# Altium footprint library UJ2-MIBH-4-SMT-TR-67.PcbLib: 2 footprints
Each footprint in its own frame and in the unit in brackets; x right, y up, seen from the top. Pads: shape width x height; smd on the part's side, far side on the other; paste and mask are expansions set on the pad; w line width, h text height; cw(c..) or ccw(c..) is an arc to the next point about the centre after c.
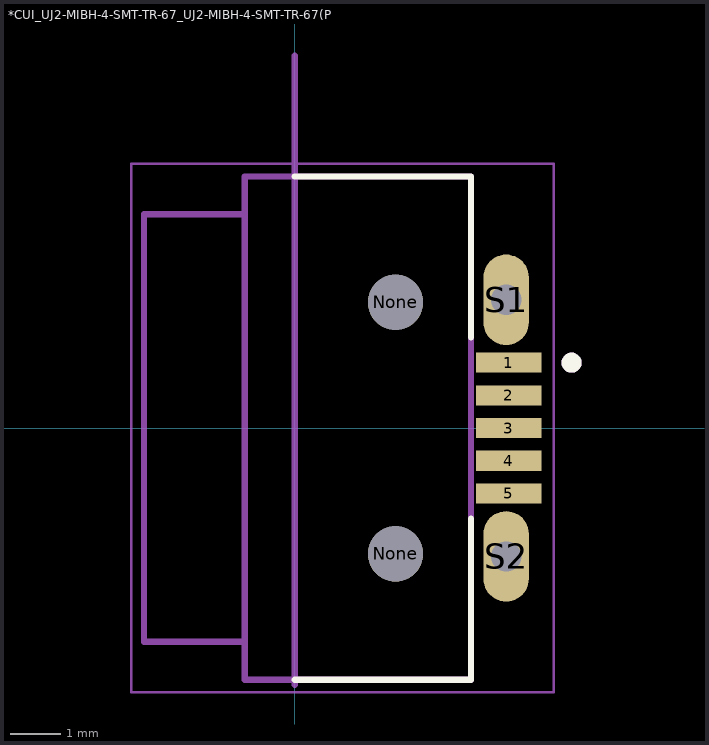
[diagram p0: the footprints below, top view; thin cyan lines are the x and y axes]

## *CUI_UJ2-MIBH-4-SMT-TR-67_UJ2-MIBH-4-SMT-TR-67(Primary) [mm]
pads (9):
  rect 1.3x0.4 smd: 1(4.25,1.3) 2(4.25,0.65) 3(4.25,0) 4(4.25,-0.65) 5(4.25,-1.3)
  round 1.1 hole 1.1 unplated: None(2,-2.5) None(2,2.5)
  oval 0.9x1.8 hole 0.6 paste+0: S1(4.2,2.55)
  oval 0.9x1.8 hole 0.6: S2(4.2,-2.55)
Top Overlay:
  circle w0.2: c5.5,1.3 r0.1
  lines w0.127: 0,-5 3.5,-5 3.5,-1.8 ; 0,5 3.5,5 3.5,1.8
Mechanical 4:
  circle w0.2: c5.5,1.3 r0.1
  circle w0.2: c5.5,1.3 r0.1
  lines w0.127: -3,-4.25 -1,-4.25 ; -3,-4.25 -3,4.25 ; -3,-4.25 -1,-4.25 ; -3,-4.25 -3,4.25 ; -3,4.25 -1,4.25 ; -3,4.25 -1,4.25 ; -1,-5 3.5,-5 ; -1,-5 -1,-4.25 ; -1,-5 3.5,-5 ; -1,-5 -1,-4.25 ; -1,-4.25 -1,4.25 ; -1,-4.25 -1,4.25 ; -1,4.25 -1,5 ; -1,4.25 -1,5 ; -1,5 3.5,5 ; -1,5 3.5,5 ; 3.5,-5 3.5,5 ; 3.5,-5 3.5,5 ; 0,-5.1 0,7.4 0,-5.1
  text "PCB EDGE" at -0.1,5.25 h1.88
  text "PCB EDGE" at -0.1,5.25 h1.88
Mechanical 16:
  lines w0.05: -3.25,-5.25 5.15,-5.25 5.15,5.25 -3.25,5.25 -3.25,-5.25

## PCBComponent_1 [mm]